# EAGLE library part TPS26600 (library HyTechDevices)
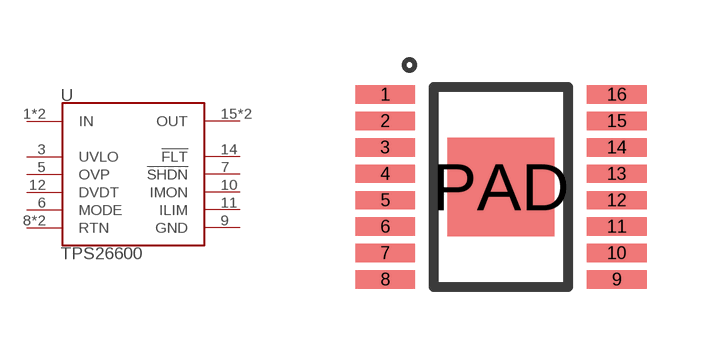
[diagram p37: symbol with the pads of HTSSOP-16; footprint HTSSOP-16]

Designator prefix -

## TPS26600  [HTSSOP-16]
1  IN
2  IN
3  UVLO
5  OVP
6  MODE
7  !SHDN!
8  RTN
9  GND
10  IMON
11  ILIM
12  DVDT
14  !FLT!
15  OUT
16  OUT
PAD  RTN

## Footprint HTSSOP-16 (pad centres in mm)
smd 1.499 x 0.457: 1 -2.896,2.311; 2 -2.896,1.651; 3 -2.896,0.991; 4 -2.896,0.33; 5 -2.896,-0.33; 6 -2.896,-0.991; 7 -2.896,-1.651; 8 -2.896,-2.311; 9 2.896,-2.311; 10 2.896,-1.651; 11 2.896,-0.991; 12 2.896,-0.33; 13 2.896,0.33; 14 2.896,0.991; 15 2.896,1.651; 16 2.896,2.311
smd 2.667 x 2.464: PAD 0,0